# EAGLE library part LSM9DS1 (library STAC)
LSM9DS1 iNEMO inertial module http://www.st.com/content/ccc/resource/technical/document/datasheet/1e/3f/2a/d6/25/eb/48/46/DM00103319.pdf/files/DM00103319.pdf/jcr:content/translations/en.DM00103319.pdf
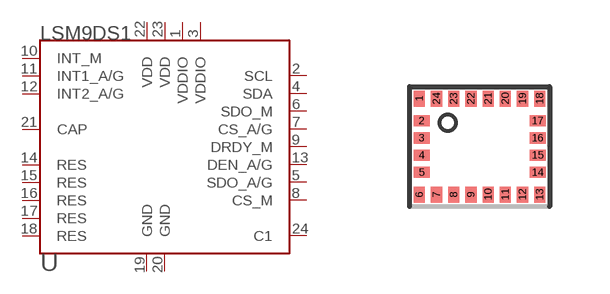
[diagram p2: symbol with the pads of LGA24-L; footprint LGA24-L]

Designator prefix U

## LSM9DS1  [LGA24-L]
1  VDDIO
2  SCL
3  VDDIO
4  SDA
5  SDO_A/G
6  SDO_M
7  CS_A/G
8  CS_M
9  DRDY_M
10  INT_M
11  INT1_A/G
12  INT2_A/G
13  DEN_A/G
14  RES
15  RES
16  RES
17  RES
18  RES
19  GND
20  GND
21  CAP
22  VDD
23  VDD
24  C1

## Footprint LGA24-L (pad centres in mm)
smd 0.28 x 0.4: 1 -1.505,1.2; 6 -1.505,-1.2; 7 -1.075,-1.2; 8 -0.645,-1.2; 9 -0.215,-1.2; 10 0.215,-1.2; 11 0.645,-1.2; 12 1.075,-1.2; 13 1.505,-1.2; 18 1.505,1.2; 19 1.075,1.2; 20 0.645,1.2; 21 0.215,1.2; 22 -0.215,1.2; 23 -0.645,1.2; 24 -1.075,1.2
smd 0.4 x 0.28: 2 -1.45,0.645; 3 -1.45,0.215; 4 -1.45,-0.215; 5 -1.45,-0.645; 14 1.45,-0.645; 15 1.45,-0.215; 16 1.45,0.215; 17 1.45,0.645